# EAGLE library part C64_EXPANSIONPORT-EDGE (library commodore)
expansion port for the Commodore 64, edge/cartridge version
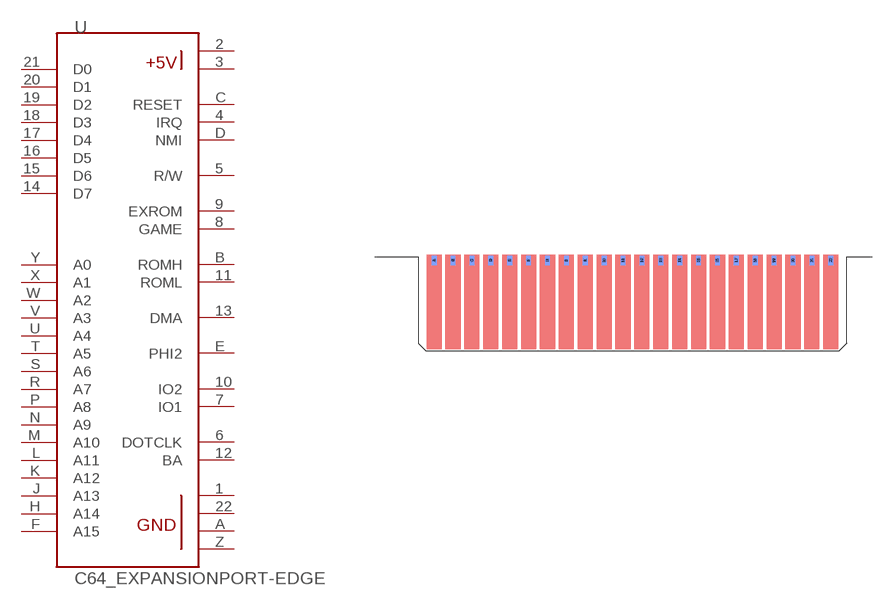
[diagram p50: symbol with the pads of EXPANSIONPORT-C64-EDGE; footprint EXPANSIONPORT-C64-EDGE]

Designator prefix -

## C64_EXPANSIONPORT-EDGE  [EXPANSIONPORT-C64-EDGE]
1  GND1  pas
2  +5V1  pas
3  +5V2  pas
4  IRQ  pas
5  R/W
6  DOTCLK  out
7  IO1  out
8  GAME  pas
9  EXROM  pas
10  IO2  out
11  ROML  out
12  BA  out
13  DMA  pas
14  D7
15  D6
16  D5
17  D4
18  D3
19  D2
20  D1
21  D0
22  GND2  pas
A  GND3  pas
B  ROMH  out
C  RESET  pas
D  NMI  pas
E  PHI2  out
F  A15
H  A14
J  A13
K  A12
L  A11
M  A10
N  A9
P  A8
R  A7
S  A6
T  A5
U  A4
V  A3
W  A2
X  A1
Y  A0
Z  GND4  pas

## Footprint EXPANSIONPORT-C64-EDGE (pad centres in mm)
C64 expansionport edge connector
smd 0.635 x 1.27: 1 2.54,12.192; 2 5.08,12.192; 3 7.62,12.192; 4 10.16,12.192; 5 12.7,12.192; 6 15.24,12.192; 7 17.78,12.192; 8 20.32,12.192; 9 22.86,12.192; 10 25.4,12.192; 11 27.94,12.192; 12 30.48,12.192; 13 33.02,12.192; 14 35.56,12.192; 15 38.1,12.192; 16 40.64,12.192; 17 43.18,12.192; 18 45.72,12.192; 19 48.26,12.192; 20 50.8,12.192; 21 53.34,12.192; 22 55.88,12.192
smd 0.635 x 1.27 bottom: A 2.54,12.192; B 5.08,12.192; C 7.62,12.192; D 10.16,12.192; E 12.7,12.192; F 15.24,12.192; H 17.78,12.192; J 20.32,12.192; K 22.86,12.192; L 25.4,12.192; M 27.94,12.192; N 30.48,12.192; P 33.02,12.192; R 35.56,12.192; S 38.1,12.192; T 40.64,12.192; U 43.18,12.192; V 45.72,12.192; W 48.26,12.192; X 50.8,12.192; Y 53.34,12.192; Z 55.88,12.192